# Altium footprint library LAY_90818_C172.PcbLib: 60 footprints (part 2 of 5)
Each footprint in its own frame and in the unit in brackets; x right, y up, seen from the top. Pads: shape width x height; smd on the part's side, far side on the other; paste and mask are expansions set on the pad; w line width, h text height; cw(c..) or ccw(c..) is an arc to the next point about the centre after c.
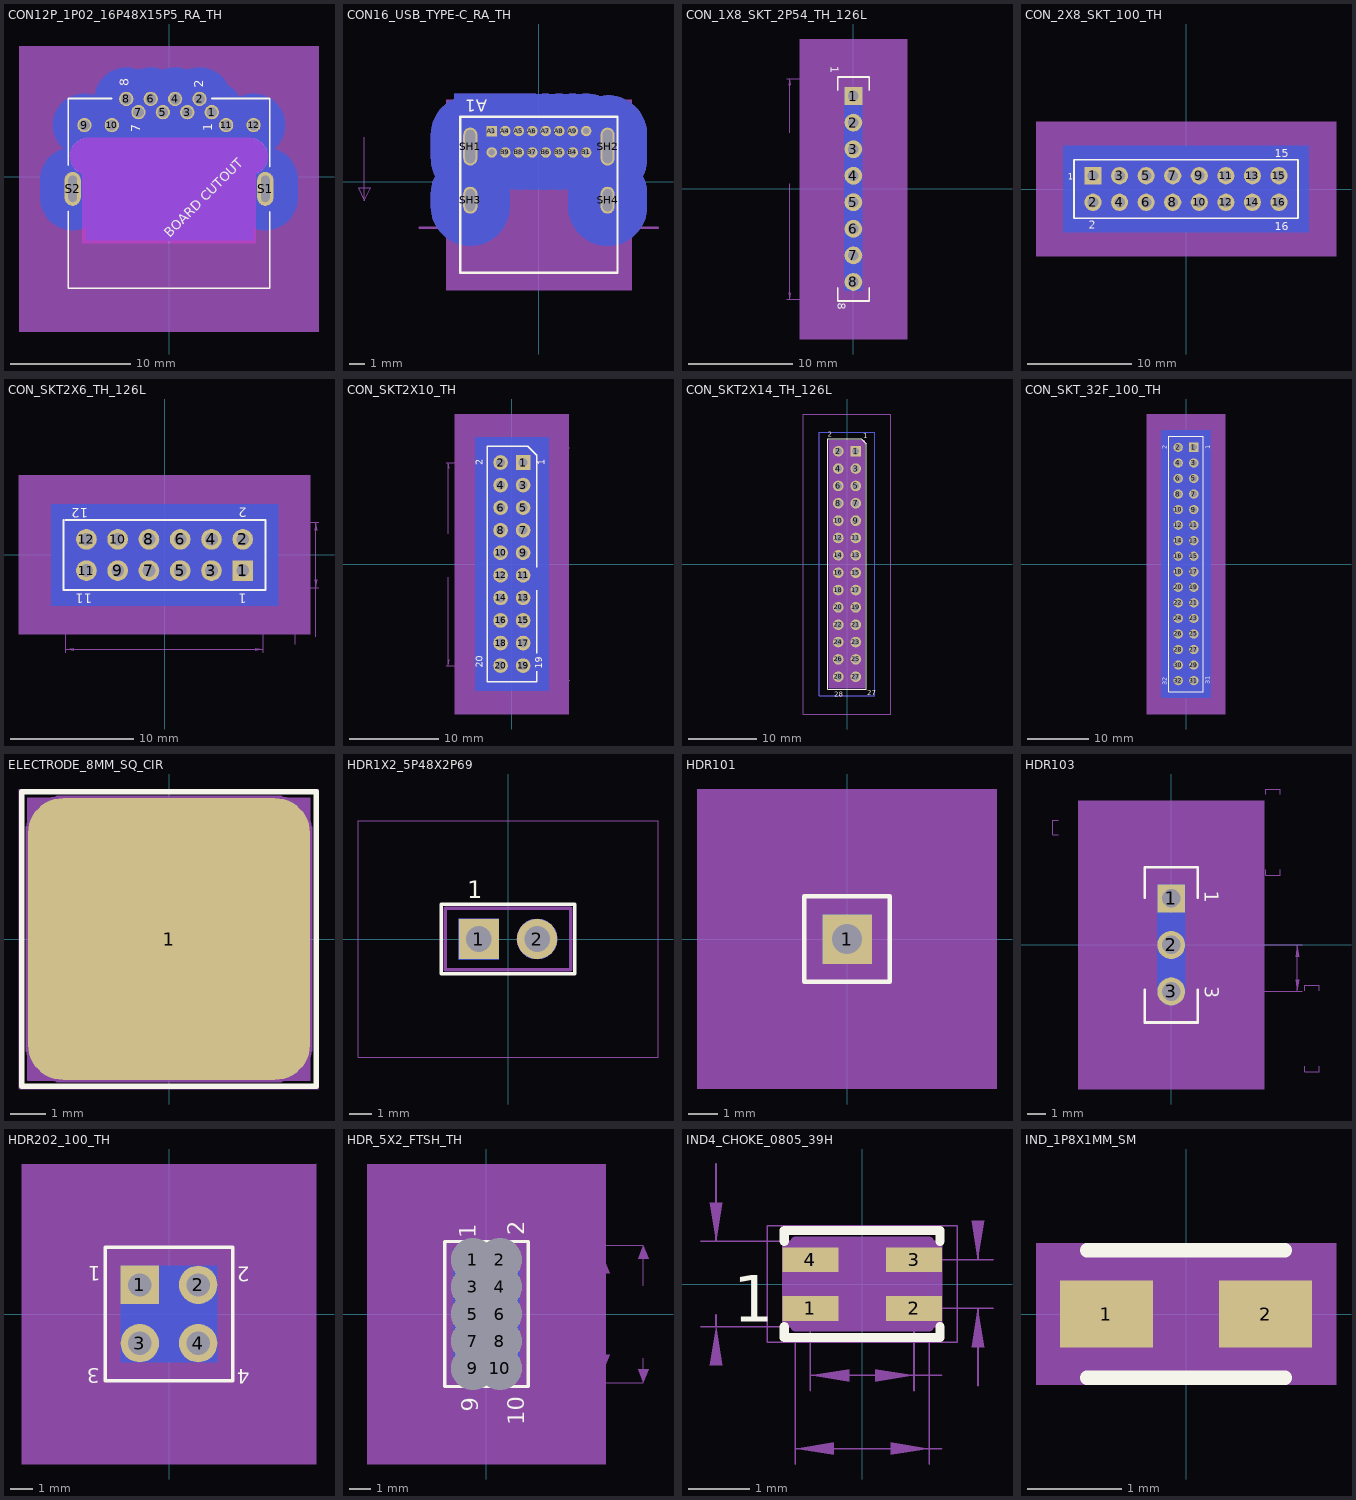
[diagram p1: the footprints below, top view; thin cyan lines are the x and y axes]

## CON12P_1P02_16P48X15P5_RA_TH [mil] "CON12P_1P02_16P48X15P5_RA_TH"
pads (14):
  round 47 hole 35: 1(140.55,212.62) 2(100.39,255.93) 3(60.24,212.62) 4(20.08,255.93) 5(-20.08,212.62) 6(-60.24,255.93) 7(-100.39,212.62) 8(-140.55,255.93) 9(-277.95,170.1) 10(-187.79,170.1) 11(187.79,170.1) 12(277.95,170.1)
  oval 53x112 hole 28 slot 87 at 90 deg: S1(316.54,-39.35) S2(-316.54,-39.35)
Bottom Layer:
  region: 368 vertices and 0 holes, not listed, extent -423.04,-175.35 423.04,359.43
  region: -272.39,-207.69 -272.39,17.45 -276.69,18.61 -280.88,20.14 -284.92,22.03 -288.77,24.27 -292.42,26.83 -295.83,29.7 -298.98,32.86 -301.84,36.28 -304.39,39.93 -306.61,43.8 -308.49,47.84 -310.01,52.03 -311.16,56.34 -311.92,60.73 -312.3,65.18 -312.3,69.64 -311.9,74.08 -311.12,78.47 -309.96,82.77 -308.43,86.96 -306.54,91 -304.3,94.85 -301.74,98.5 -298.87,101.91 -295.71,105.06 -292.29,107.92 -288.63,110.47 -284.77,112.69 -280.73,114.57 -276.53,116.09 -272.22,117.24 -267.83,118 -266.75,118.13 266.78,118.13 271.23,117.94 275.65,117.36 280,116.4 284.25,115.06 288.36,113.36 292.31,111.3 296.07,108.91 299.61,106.2 302.89,103.2 305.9,99.91 308.62,96.38 311.01,92.63 313.07,88.68 314.78,84.56 316.12,80.31 317.08,75.97 317.67,71.55 317.87,67.1 317.67,62.65 317.09,58.23 316.13,53.89 314.79,49.64 313.09,45.52 311.04,41.57 308.65,37.81 305.94,34.28 302.93,30.99 299.65,27.98 296.11,25.27 292.36,22.87 288.41,20.81 284.29,19.11 280.05,17.77 278.8,17.45 278.8,-207.69
Top Overlay:
  lines w6: -331.41,-113.89 -331.41,-366.43 331.41,-366.43 331.41,-115.33 ; -331.41,39.01 -331.41,257.81 -188.06,257.81 ; 140.81,257.81 331.41,257.81 331.41,32.88
  text ".Designator" at -347.75,-181.25 h30
  text "BOARD CUTOUT" at 1.89,-201.67 h31
  text "2" at 112.25,292.75 h30
  text "8" at -132.75,297.75 h30
  text "7" at -93.88,146.14 h30
  text "1" at 142.83,150.24 h30
Bottom Overlay:
  text ".Designator" at -37.75,263.75 h30
  text "2" at 100.77,283.27 h30
  text "8" at -138.67,283.95 h30
  text "7" at -103.88,130.46 h30
  text "1" at 131.47,134.56 h30
Top Courtyard:
  dashed: -343.04,279.41 -343.04,-359.43 343.04,-359.43 343.04,279.41
Bottom Courtyard:
  drawing of 2 lines, arcs and shapes, not listed
Top 3D Body:
  region: -343.04,-359.43 343.04,-359.43 343.04,279.41 -343.04,279.41
Top Component Center:
  lines w1: 130.53,212.62 150.53,212.62 ; 140.53,202.62 140.53,222.62
Multi-Layer keep-out:
  region: -270.47,128.13 263.63,128.13 268.95,127.9 274.23,127.2 279.43,126.04 284.51,124.44 289.43,122.4 294.15,119.94 298.65,117.08 302.87,113.83 306.8,110.23 310.39,106.3 313.63,102.07 316.49,97.58 318.95,92.86 320.99,87.93 322.59,82.85 323.74,77.65 324.43,72.37 324.66,67.05 324.43,61.73 323.73,56.45 322.57,51.25 320.97,46.17 318.93,41.25 316.47,36.52 313.6,32.03 310.36,27.81 306.76,23.88 302.83,20.29 298.6,17.05 294.11,14.19 289.38,11.73 285.59,10.12 285.59,-217.69 -285.59,-217.69 -285.59,9.99 -290.51,12.05 -295.23,14.53 -299.71,17.42 -303.93,20.68 -307.84,24.3 -311.43,28.24 -314.65,32.48 -317.5,36.99 -319.94,41.73 -321.96,46.66 -323.54,51.76 -324.67,56.97 -325.35,62.25 -325.56,67.58 -325.3,72.9 -324.58,78.19 -323.41,83.39 -321.78,88.46 -319.72,93.38 -317.24,98.1 -314.36,102.58 -311.09,106.8 -307.48,110.71 -303.53,114.3 -299.29,117.53 -294.78,120.37 -290.04,122.81 -285.11,124.83 -280.02,126.41 -274.81,127.55
Mechanical 31:
  dashed: -493.04,-509.43 493.04,-509.43 493.04,429.41 -493.04,429.41
Mechanical34:
  text "8" at -134.05,223.96 h25
  text "7" at -93.36,180.65 h25
  text "5" at -12,181.97 h25
  text "4" at 27.37,222 h25
  text "1" at 148.11,180 h25
  text "2" at 108.09,224.62 h25
  text "6" at -52.69,222.65 h25
  text "3" at 69.37,180 h25
  text "12" at 296.91,116.69 h25
  text "10" at -169.39,117.42 h25
  text "S1" at 333.49,-94.05 h25
  text "S2" at -299.58,-94.05 h25
  text "11" at 206.36,118 h25
  text "9" at -268.74,138.14 h25
Mechanical35:
  text "CON12P_1P02_16P48X15P5_RA_TH" at -0.74,20.36 h31
  text "PADS 1-12 C047-035T" at 25.51,-1077.97 h31
  text "PADS -S1,S2 O053X112-028X087T" at 38.1,-1257.64 h31
  text "ALL DIMS IN MM" at 25.51,-1127.16 h31
Top Assembly:
  lines w6: -433.07,-207.69 -275.59,-207.69 -275.59,17.45 cw(c-264.45,67.32) -269.96,118.13 263.58,118.13 cw(c263.6,67.08) 275.59,17.45 275.59,-207.69 433.07,-207.69 ; 373.09,-170.95 388.22,-192.59 ; 388.22,83.01 388.22,-192.59 ; 404.56,-171.11 388.22,-192.59 ; -324.41,-359.43 324.41,-359.43 324.41,250.81 -324.41,250.81 -324.41,-359.43
  text "BOARD CUTOUT" at -2.21,-199.81 h31
  text "2" at 100.77,285.54 h25
  text "8" at -140.03,288.27 h25
  text "7" at -103.89,136.36 h25
  text "1" at 132.14,140.24 h25
  text "PCB EDGE DIRECTION" at 487.11,-249.02 h31
  text "BOARD EDGE NOT DEFINED BY MANUFACTURER" at 551.28,-580.56 h31
3D body: height 150, standoff 0, extent -343.04,-359.43 343.04,279.41

## CON16_USB_TYPE-C_RA_TH [mil] "CON16_USB_TYPE-C_RA_TH"
pads (20):
  rect 26x26 hole 16: A1(-117.13,125.94)
  round 26 hole 16: A4(-83.66,125.94) A5(-50.2,125.94) A6(-16.73,125.94) A7(16.73,125.94) A8(50.2,125.94) A9(83.66,125.94) A12(117.13,125.94) B1(117.13,72.79) B4(83.66,72.79) B5(50.2,72.79) B6(16.73,72.79) B7(-16.73,72.79) B8(-50.2,72.79) B9(-83.66,72.79) B12(-117.13,72.79)
  oval 35x94 hole 24 slot 83 at 90 deg: SH1(-170.28,87.36) SH2(170.28,87.36)
  oval 35x67 hole 24 slot 55 at 90 deg: SH3(-170.28,-45.71) SH4(170.28,-45.71)
Bottom Layer:
  region: 219 vertices and 0 holes, not listed, extent -267.78,-159.21 267.78,218.94
Top Overlay:
  lines w6: -194.78,-225.94 -194.78,160.89 194.78,160.89 194.78,-225.94 -194.78,-225.94
  text ".Designator" at -218,-96.78 h30
  text "A1" at -128,203.22 h30
Bottom Overlay:
  text ".Designator" at 2,-32.78 h30
  text "B12" at -103,-27.78 h30
  text "B1" at 132,-5.78 h30
Top Courtyard:
  dashed: -180.12,-218.94 -180.12,-76.18 -181.34,-75.27 -182.48,-74.25 -183.53,-73.14 -184.47,-71.94 -185.31,-70.67 -186.03,-69.32 -186.64,-67.92 -187.12,-66.47 -187.47,-64.99 -187.69,-63.48 -187.77,-61.95 -187.78,-61.71 -187.78,-29.71 -187.71,-28.19 -187.51,-26.68 -187.18,-25.19 -186.72,-23.73 -186.14,-22.32 -185.43,-20.97 -184.61,-19.68 -183.68,-18.47 -182.65,-17.34 -181.53,-16.31 -180.31,-15.38 -180.12,-15.24 -180.12,43.39 -181.34,44.3 -182.48,45.32 -183.53,46.43 -184.47,47.63 -185.31,48.9 -186.03,50.25 -186.64,51.65 -187.12,53.1 -187.47,54.58 -187.69,56.09 -187.77,57.62 -187.78,57.86 -187.78,116.86 -187.71,118.38 -187.51,119.9 -187.18,121.39 -186.72,122.84 -186.14,124.25 -185.43,125.61 -184.61,126.89 -183.68,128.1 -182.65,129.23 -181.53,130.26 -180.31,131.19 -180.12,131.33 -180.12,153.89 180.12,153.89 180.12,131.33 181.34,130.41 182.48,129.4 183.53,128.29 184.47,127.09 185.31,125.81 186.03,124.47 186.64,123.07 187.12,121.62 187.47,120.13 187.69,118.62 187.77,117.1 187.78,116.86 187.78,57.86 187.71,56.33 187.51,54.82 187.18,53.33 186.72,51.87 186.14,50.46 185.43,49.11 184.61,47.82 183.68,46.61 182.65,45.48 181.53,44.45 180.31,43.52 180.12,43.39 180.12,-15.24 181.34,-16.16 182.48,-17.17 183.53,-18.28 184.47,-19.48 185.31,-20.76 186.03,-22.1 186.64,-23.51 187.12,-24.95 187.47,-26.44 187.69,-27.95 187.77,-29.48 187.78,-29.71 187.78,-61.71 187.71,-63.24 187.51,-64.75 187.18,-66.24 186.72,-67.7 186.14,-69.11 185.43,-70.46 184.61,-71.75 183.68,-72.96 182.65,-74.09 181.52,-75.12 180.31,-76.05 180.12,-76.18 180.12,-218.94
Bottom Courtyard:
  drawing of 7 lines, arcs and shapes, not listed
Top 3D Body:
  region: -180.12,-218.94 -180.12,-76.18 -181.34,-75.27 -182.48,-74.25 -183.53,-73.14 -184.47,-71.94 -185.31,-70.67 -186.03,-69.32 -186.64,-67.92 -187.12,-66.47 -187.47,-64.99 -187.69,-63.48 -187.77,-61.95 -187.78,-61.71 -187.78,-29.71 -187.71,-28.19 -187.51,-26.68 -187.18,-25.19 -186.72,-23.73 -186.14,-22.32 -185.43,-20.97 -184.61,-19.68 -183.68,-18.47 -182.65,-17.34 -181.53,-16.31 -180.31,-15.38 -180.12,-15.24 -180.12,43.39 -181.34,44.3 -182.48,45.32 -183.53,46.43 -184.47,47.63 -185.31,48.9 -186.03,50.25 -186.64,51.65 -187.12,53.1 -187.47,54.58 -187.69,56.09 -187.77,57.62 -187.78,57.86 -187.78,116.86 -187.71,118.38 -187.51,119.9 -187.18,121.39 -186.72,122.84 -186.14,124.25 -185.43,125.61 -184.61,126.89 -183.68,128.1 -182.65,129.23 -181.53,130.26 -180.31,131.19 -180.12,131.33 -180.12,153.89 180.12,153.89 180.12,131.33 181.34,130.41 182.48,129.4 183.53,128.29 184.47,127.09 185.31,125.81 186.03,124.47 186.64,123.07 187.12,121.62 187.47,120.13 187.69,118.62 187.77,117.1 187.78,116.86 187.78,57.86 187.71,56.33 187.51,54.82 187.18,53.33 186.72,51.87 186.14,50.46 185.43,49.11 184.61,47.82 183.68,46.61 182.65,45.48 181.53,44.45 180.31,43.52 180.12,43.39 180.12,-15.24 181.34,-16.16 182.48,-17.17 183.53,-18.28 184.47,-19.48 185.31,-20.76 186.03,-22.1 186.64,-23.51 187.12,-24.95 187.47,-26.44 187.69,-27.95 187.77,-29.48 187.78,-29.71 187.78,-61.71 187.71,-63.24 187.51,-64.75 187.18,-66.24 186.72,-67.7 186.14,-69.11 185.43,-70.46 184.61,-71.75 183.68,-72.96 182.65,-74.09 181.52,-75.12 180.31,-76.05 180.12,-76.18 180.12,-218.94
Top Component Center:
  lines w1: -127.13,125.94 -107.13,125.94 ; -117.13,115.94 -117.13,135.94
Mechanical 31:
  dashed: -237.78,-29.71 -237.52,-23.83 -236.75,-17.99 -235.48,-12.24 -233.7,-6.63 -231.45,-1.19 -230.12,1.51 -230.12,26.63 -232.61,31.97 -234.63,37.5 -236.16,43.18 -237.19,48.98 -237.71,54.85 -237.78,57.86 -237.78,116.86 -237.52,122.74 -236.75,128.58 -235.48,134.33 -233.7,139.94 -231.45,145.38 -230.12,148.08 -230.12,203.89 230.12,203.89 230.12,148.08 232.61,142.75 234.63,137.22 236.16,131.53 237.19,125.73 237.71,119.87 237.78,116.86 237.78,57.86 237.52,51.97 236.75,46.14 235.48,40.39 233.7,34.77 231.45,29.33 230.12,26.63 230.12,1.51 232.61,-3.82 234.63,-9.35 236.16,-15.04 237.19,-20.84 237.71,-26.7 237.78,-29.71 237.78,-61.71 237.52,-67.6 236.75,-73.43 235.48,-79.18 233.7,-84.8 231.45,-90.24 230.12,-92.94 230.12,-268.94 -230.12,-268.94 -230.12,-92.94 -232.61,-87.6 -234.63,-82.07 -236.16,-76.39 -237.19,-70.59 -237.71,-64.72 -237.78,-61.71
Mechanical34:
  text "SH3" at -170.28,-57.71 h10
  text "SH1" at -170.28,75.36 h10
  text "SH4" at 170.28,-57.71 h10
  text "SH2" at 170.28,75.36 h10
  text "A8" at 50.2,117.94 h10
  text "B8" at -50.2,64.79 h10
  text "B9" at -83.66,64.79 h10
  text "A4" at -83.66,117.94 h10
  text "B4" at 83.66,64.79 h10
  text "A9" at 83.66,117.94 h10
  text "B6" at 16.73,64.79 h10
  text "A6" at -16.73,117.94 h10
  text "A5" at -50.2,117.94 h10
  text "B5" at 50.2,64.79 h10
  text "B7" at -16.73,64.79 h10
  text "A7" at 16.73,117.94 h10
  text "A1" at -117.13,117.94 h10
  text "B12" at -117.13,60.79 h10
  text "A12" at 117.13,113.94 h10
  text "B1" at 117.13,64.79 h10
Mechanical35:
  text "CON16_USB_TYPEC_RA_TH" at -278.86,388.05 h31
  text "PADS A4-A12 TO  B1-B12  - C026-016T" at -446.04,-447.83 h31
  text "PADS SH1,SH2  O035X094-024X083T" at -403,-506.05 h31
  text "PADS SH3,SH4  O035X067-024X055T" at -406.54,-567.86 h31
  text "ALL DIMS IN MM" at -180.51,-629.32 h31
  text "PADS A1  - S026-016T" at -295.46,-397.04 h31
Top Assembly:
  lines w1: -433.07,110.98 -433.07,-46.5 ; -433.07,-46.5 -417.32,-15.01 -448.82,-15.01 -433.07,-46.5
  lines w6: -295.28,-114.22 295.28,-114.22 ; -180.12,-218.94 180.12,-218.94 180.12,153.89 -180.12,153.89 -180.12,-218.94
  text "A12" at 115.16,152.73 h25
  text "A1" at -115.16,158.79 h25
  text "B1" at 230.71,34.22 h25
  text "B12" at -253.54,17.13 h25
  text "BOARD EDGE NOT DEFINED BY MANUFACTURER" at -504.42,-565.26 h31
  text "PCB EDGE" at -424.42,-303.26 h31
3D body: height 150, standoff 0, extent -187.78,-218.94 187.78,153.89

## CON_1X8_SKT_2P54_TH_126L [mil] "CON_1X8_SKT_2P54_TH_126L"
pads (8):
  rect 67x67 / inner round 67 / far side rect 67x67 hole 40: 1(0.05,349.98)
  round 67 hole 40: 2(0.05,249.98) 3(0.05,149.98) 4(0.05,49.98) 5(0.05,-50.02) 6(0.05,-150.02) 7(0.05,-250.02) 8(0.05,-350.02)
Bottom Layer:
  region: -33.47,-383.49 33.54,-383.49 33.54,383.59 -33.47,383.59
Top Overlay:
  lines w6: -59.11,-371.79 -59.11,-421.79 59.22,-421.79 59.22,-371.79 ; -59.11,371.74 -59.11,421.74 59.22,421.74 59.22,371.74
  text "1" at -85.05,462.02 h30
  text "8" at -59.05,-428.98 h30
Bottom Overlay:
  text "1" at -16.6,415.42 h30
  text "8" at -10.05,-429.98 h30
  text ".Designator" at -75.05,65.02 h30
Top Courtyard:
  dashed: -52.11,414.83 -52.11,-414.83 52.11,-414.83 52.11,414.83
Bottom Courtyard:
  dashed: -33.47,383.59 -33.47,-383.49 33.54,-383.49 33.54,383.59
Top 3D Body:
  region: -52.11,-414.83 52.11,-414.83 52.11,414.83 -52.11,414.83
Top Component Center:
  lines w1: -9.95,349.98 10.05,349.98 ; 0.05,339.98 0.05,359.98
Mechanical 31:
  dashed: -202.11,-564.83 202.11,-564.83 202.11,564.83 -202.11,564.83
Mechanical34:
  text "2" at 0.05,253.98 h10
  text "1" at 0.05,353.98 h10
  text "6" at 0.05,-146.02 h10
  text "5" at 0.05,-46.02 h10
  text "4" at 0.05,53.98 h10
  text "3" at 0.05,153.98 h10
  text "7" at 0.05,-246.02 h10
  text "8" at 0.05,-346.02 h10
Mechanical35:
  dashed: -119.95,324.98 -123.95,349.98 -127.94,324.98 -123.95,329.98
  dashed: -127.94,274.98 -123.95,249.98 -119.95,274.98 -123.95,269.98
  dashed: -178.95,324.98 -182.95,349.98 -186.94,324.98 -182.95,329.98
  dashed: -186.94,-325.02 -182.95,-350.02 -178.95,-325.02 -182.95,-330.02
  dashed: -235.95,389.74 -239.95,414.74 -243.94,389.74 -239.95,394.74
  dashed: -243.94,-389.79 -239.95,-414.79 -235.95,-389.79 -239.95,-394.79
  dashed: 27.22,-499.52 52.22,-495.52 27.22,-491.53 32.22,-495.52
  dashed: -27.11,-491.53 -52.11,-495.52 -27.11,-499.52 -32.11,-495.52
  lines w1: -249.95,-414.79 -62.11,-414.79 ; -249.95,414.74 -62.11,414.74 ; -239.95,-414.79 -239.95,19.73 ; -239.95,211.23 -239.95,414.74 ; -192.95,-350.02 -9.95,-350.02 ; -192.95,349.98 -9.95,349.98 -133.95,349.98 ; -182.95,-350.02 -182.95,19.73 ; -182.95,211.23 -182.95,349.98 ; -133.95,249.98 -9.95,249.98 ; -123.95,211.23 -123.95,249.98 -123.95,349.98 ; -97.7,-495.52 -52.11,-495.52 52.22,-495.52 ; -52.11,-505.52 -52.11,-424.79 ; 52.22,-505.52 52.22,-424.79
  text "CON_1X8_SKT_2P54_TH_126L" at -292.45,607.48 h31
  text "PADS 2-8 CO67-040T" at -319.95,-733.02 h31
  text "PAD    1 S067-040T" at -319.45,-682.92 h31
  text "ALL DIMS IN MM" at -258.45,-614.02 h31
  text "2.54" at -108.45,74.98 h31
  text "17.78" at -167.45,45.98 h31
  text "21.07" at -224.45,45.98 h31
  text "2.65" at -233.95,-511.02 h31
Top Assembly:
  lines w6: -52.11,-414.79 52.22,-414.79 52.22,414.74 -52.11,414.74 -52.11,-414.79
  text "1" at -9.45,440.68 h25
  text ".Designator" at -17.95,359.98 h25
  text "8" at -6.95,-463.52 h25
3D body: height 150, standoff 0, extent -52.11,-414.83 52.11,414.83

## CON_2X8_SKT_100_TH [mil] "CON_2X8_SKT_100_TH"
pads (16):
  rect 65x65 / inner round 65 / far side rect 65x65 hole 40: 1(-350,50)
  round 65 hole 40: 2(-350,-50) 3(-250,50) 4(-250,-50) 5(-150,50) 6(-150,-50) 7(-50,50) 8(-50,-50) 9(50,50) 10(50,-50) 11(150,50) 12(150,-50) 13(250,50) 14(250,-50) 15(350,50) 16(350,-50)
Bottom Layer:
  region: -462.5,-162.5 462.5,-162.5 462.5,162.5 -462.5,162.5
Top Overlay:
  lines w6: -421.76,-109.95 421.76,-109.95 421.76,109.95 -421.76,109.95 -421.76,-109.95
  text ".Designator" at -15.5,-155.5 h30
  text "16" at 335.04,-154.72 h30
  text "15" at 334.5,119.5 h30
  text "2" at -365.5,-150.5 h30
  text "1" at -445.5,34.5 h25
Bottom Overlay:
  text "15" at 445,35 h25
  text "16" at 445,-65 h25
  text "2" at -410.5,-45.5 h30
  text "1" at -410.5,44.5 h30
Top Courtyard:
  dashed: -414.76,-102.95 414.76,-102.95 414.76,102.95 -414.76,102.95
Bottom Courtyard:
  dashed: -462.5,-162.5 462.5,-162.5 462.5,162.5 -462.5,162.5
Top 3D Body:
  region: -414.76,-102.95 414.76,-102.95 414.57,105.12 -414.76,102.95
Top Component Center:
  lines w1: -360,50 -340,50 ; -350,40 -350,60
Mechanical 31:
  dashed: -564.76,-252.95 564.76,-252.95 564.76,252.95 -564.76,252.95
Mechanical34:
  text "3" at -254,50 h10
  text "6" at -154,-50 h10
  text "8" at -54,-50 h10
  text "4" at -254,-50 h10
  text "7" at -54,50 h10
  text "1" at -354,50 h10
  text "9" at 46,50 h10
  text "5" at -154,50 h10
  text "11" at 142,50 h10
  text "15" at 342,50 h10
  text "2" at -354,-50 h10
  text "13" at 242,50 h10
  text "10" at 42,-50 h10
  text "16" at 342,-50 h10
  text "12" at 142,-50 h10
  text "14" at 242,-50 h10
Mechanical35:
  text "ALL DIMS ARE IN MM" at -247.64,-414.57 h31
  text "PADS  C065-040T" at -200.39,-359.45 h31
  text "PAD 1 S065-040T" at -200.39,-312.2 h31
  text "CON_2X8_SKT_100_TH" at -239.76,175.98 h31
Top Assembly:
  lines w6: -414.76,-102.95 414.76,-102.95 414.76,102.95 -414.76,102.95 -414.76,-102.95
  text ".Designator" at -11.42,-5.12 h25
  text "16" at 335.04,-146.85 h25
  text "15" at 327.17,128.74 h25
  text "2" at -356.43,-150.71 h25
  text "1" at -356.43,123.28 h25
3D body: height 150, standoff 0, extent -414.76,-102.95 414.76,105.12

## CON_SKT2X6_TH_126L [mil] "CON_SKT2X6_TH_126L"
pads (12):
  rect 66x66 / inner round 66 / far side rect 66x66 hole 41: 1(250,-50)
  round 66 hole 41: 2(250,50) 3(150,-50) 4(150,50) 5(50,-50) 6(50,50) 7(-50,-50) 8(-50,50) 9(-150,-50) 10(-150,50) 11(-250,-50) 12(-250,50)
Bottom Layer:
  region: -363,-163 363,-163 363,163 -363,163
Top Overlay:
  lines w6: -323.2,111.78 -323.2,-111.76 323.22,-111.76 323.22,111.78 -317.65,111.78
  text ".Designator" at 23.5,150.5 h30
  text "1" at 263.5,-124.5 h30
  text "2" at 263.5,150.5 h30
  text "11" at -231.5,-124.5 h30
  text "12" at -245,150 h30
Bottom Overlay:
  text ".Designator" at -36.5,10.5 h30
  text "1" at 300,-35 h25
  text "2" at 295,50 h25
  text "11" at -341.5,-39.5 h25
  text "12" at -341.5,60.5 h25
Top Courtyard:
  dashed: -315.75,-104.33 315.75,-104.33 315.75,104.33 -315.75,104.33
Bottom Courtyard:
  dashed: -363,-163 363,-163 363,163 -363,163
Top 3D Body:
  region: -315.75,-104.33 315.75,-104.33 315.75,104.33 -315.75,104.33
Top Component Center:
  lines w1: 240,-50 260,-50 ; 250,-60 250,-40
Mechanical 31:
  dashed: -465.75,-254.33 465.75,-254.33 465.75,254.33 -465.75,254.33
Mechanical34:
  text "12" at -242,50 h10
  text "10" at -142,50 h10
  text "8" at -46,50 h10
  text "6" at 54,50 h10
  text "2" at 254,50 h10
  text "4" at 154,50 h10
  text "3" at 154,-50 h10
  text "1" at 254,-50 h10
  text "5" at 54,-50 h10
  text "7" at -46,-50 h10
  text "9" at -146,-50 h10
  text "11" at -242,-50 h10
Mechanical35:
  dashed: 225,-172.3 250,-168.3 225,-164.31
  dashed: 175,-164.31 150,-168.3 175,-172.3
  dashed: 225,-240.6 250,-236.61 225,-232.61
  dashed: -225,-232.61 -250,-236.61 -225,-240.6
  dashed: 290.75,-306.09 315.75,-302.1 290.75,-298.1
  dashed: -290.75,-298.1 -315.75,-302.1 -290.75,-306.09
  dashed: 421.51,25 417.51,50 413.52,25
  dashed: 413.52,-25 417.51,-50 421.51,-25
  dashed: 487.94,79.33 483.94,104.33 479.95,79.33
  dashed: 479.95,-79.33 483.94,-104.33 487.94,-79.33
  lines w1: -315.75,-312.1 -315.75,-108.42 ; -315.75,-302.1 -18.49,-302.1 315.75,-302.1 ; -250,-246.61 -250,-60 ; -250,-236.61 -16.62,-236.61 250,-236.61 ; -29.57,-168.3 150,-168.3 ; 150,-178.3 150,-60 ; 250,-246.61 250,-60 250,-178.3 ; 260,-50 427.51,-50 ; 260,50 427.51,50 ; 315.75,-312.1 315.75,-108.42 ; 325.75,-104.33 493.94,-104.33 ; 325.75,104.33 493.94,104.33 ; 417.51,-286.04 417.51,-50 ; 483.94,-261.24 483.94,-104.33 ; 150,-168.3 250,-168.3 150,-168.3 ; 417.51,-50 417.51,50 417.51,-50 ; 483.94,-104.33 483.94,104.33 483.94,-104.33
  text "CON_SKT2X6_TH_126L" at -185.03,209.69 h31
  text "ALL DIMS ARE IN MM." at -237.43,-505.13 h31
  text "PAD 1 S066-041T" at -212.62,-384.13 h31
  text "PADS 2-12 C066-041T" at -329.85,-444.81 h31
  text "2.54" at -3.32,-149.8 h31
  text "12.7" at -71.62,-218.11 h31
  text "16.04" at -87.99,-283.6 h31
  text "2.54" at 399.01,-259.8 h31
  text "5.3" at 465.44,-235 h31
Top Assembly:
  lines w6: -315.75,-104.33 315.75,-104.33 315.75,104.33 -315.75,104.33 -315.75,-104.33
  text "1" at 329.6,-139.17 h25
  text "2" at 335.19,122.44 h25
  text "11" at -373.39,-141.92 h25
  text "12" at -367.1,120.42 h25
3D body: height 150, standoff 0, extent -315.75,-104.33 315.75,104.33

## CON_SKT2X10_TH [mil] "CON_SKT2X10_TH"
pads (20):
  rect 65x65 / inner round 65 / far side rect 65x65 hole 40: 1(50,450)
  round 65 hole 40: 2(-50,450) 3(50,350) 4(-50,350) 5(50,250) 6(-50,250) 7(50,150) 8(-50,150) 9(50,50) 10(-50,50) 11(50,-50) 12(-50,-50) 13(50,-150) 14(-50,-150) 15(50,-250) 16(-50,-250) 17(50,-350) 18(-50,-350) 19(50,-450) 20(-50,-450)
Bottom Layer:
  region: -162.5,-562.5 162.5,-562.5 162.5,562.5 -162.5,562.5
Top Overlay:
  lines w6: 109.95,-475 109.95,-521.96 -109.95,-521.96 -109.95,454 -109.95,521.96 70.58,521.96 109.95,482.59 109.95,460 109.95,-15 ; 109.95,-395 109.95,-115
  text ".Designator" at -130,21 h30
  text "1" at 145,438 h30
  text "2" at -130,438 h30
  text "19" at 135,-464 h30
  text "20" at -130,-459 h30
Bottom Overlay:
  text ".Designator" at 10,-19 h30
  text "20" at -130,-544 h30
  text "19" at 155,-544 h30
  text "2" at 5,490 h25
  text "1" at 85,490 h25
Top Courtyard:
  dashed: -102.95,-514.96 102.95,-514.96 102.95,514.96 -102.95,514.96
Bottom Courtyard:
  dashed: -162.5,-562.5 162.5,-562.5 162.5,562.5 -162.5,562.5
Top 3D Body:
  region: -103,-514.5 103,-514.5 103,515 -103,515
Top Component Center:
  lines w1: 40,450 60,450 ; 50,440 50,460
Mechanical 31:
  dashed: -253,-664.5 253,-664.5 253,665 -253,665
Mechanical34:
  text "17" at 50,-373 h10
  text "20" at -50,-473 h10
  text "18" at -50,-373 h10
  text "4" at -50,331 h10
  text "6" at -50,231 h10
  text "8" at -50,131 h10
  text "9" at 50,31 h10
  text "3" at 50,331 h10
  text "5" at 50,231 h10
  text "19" at 50,-473 h10
  text "13" at 50,-173 h10
  text "15" at 50,-273 h10
  text "10" at -50,27 h10
  text "12" at -50,-73 h10
  text "2" at -50,431 h10
  text "11" at 50,-73 h10
  text "1" at 50,431 h10
  text "7" at 50,131 h10
  text "16" at -50,-273 h10
  text "14" at -50,-173 h10
Mechanical35:
  dashed: 251,489.96 247,514.96 243,489.96
  dashed: 243,-489.96 247,-514.96 251,-489.96
  dashed: 25,611 50,615 25,619
  dashed: -25,619 -50,615 -25,611
  dashed: -179.5,325 -183.5,350 -187.5,325
  dashed: -187.5,275 -183.5,250 -179.5,275
  dashed: -277,425 -281,450 -285,425
  dashed: -285,-425 -281,-450 -277,-425
  dashed: 77.95,-573.05 102.95,-569.05 77.95,-565.06
  dashed: -77.95,-565.06 -102.95,-569.05 -77.95,-573.05
  lines w1: -291,-450 -60,-450 ; -291,450 -60,450 ; -281,-450 -281,-57.75 ; -281,133.75 -281,450 ; -193.5,250 -60,250 ; -193.5,350 -60,350 ; -183.5,160.25 -183.5,250 -183.5,350 ; -102.95,-579.05 -102.95,-524.96 ; -102.95,-569.05 -85.58,-569.05 ; -50,460 -50,625 ; -50,615 50,615 187.25,615 ; 50,460 50,625 ; 76.92,-569.05 102.95,-569.05 ; 102.95,-579.05 102.95,-524.96 ; 112.36,-514.96 257,-514.96 ; 112.36,514.96 257,514.96 ; 247,-514.96 247,-69.25 ; 247,122.25 247,514.96
  text "CON_SKT2X10_TH" at -193.43,685.32 h31
  text "PAD1    S065-040T" at -218.34,-702.33 h31
  text "PAD2-20 C065-040T" at -218.34,-747.33 h31
  text "ALL DIMS IN MM" at -138.86,-801.06 h31
  text "26.16" at 262.5,-43 h31
  text "2.54" at -168,24 h31
  text "2.54" at 213.5,599.5 h31
  text "22.86" at -265.5,-31.5 h31
  text "5.23" at -59.33,-584.55 h31
Top Assembly:
  lines w6: -102.95,-514.96 -102.95,514.96 63.58,514.96 102.95,475.59 102.95,-514.96 -102.95,-514.96
  text "1" at 140.82,442.84 h25
  text "2" at -160.47,434.77 h25
  text "19" at 119.96,-460.91 h25
  text "20" at -175.31,-465.87 h25
3D body: height 150, standoff 0, extent -103,-514.5 103,515

## CON_SKT2X14_TH_126L [mil] "CON_SKT2X14_TH_126L"
pads (28):
  rect 61x61 / inner round 61 / far side rect 61x61 hole 41: 1(50,650)
  round 61 hole 41: 2(-50,650) 3(50,550) 4(-50,550) 5(50,450) 6(-50,450) 7(50,350) 8(-50,350) 9(50,250) 10(-50,250) 11(50,150) 12(-50,150) 13(50,50) 14(-50,50) 15(50,-50) 16(-50,-50) 17(50,-150) 18(-50,-150) 19(50,-250) 20(-50,-250) 21(50,-350) 22(-50,-350) 23(50,-450) 24(-50,-450) 25(50,-550) 26(-50,-550) 27(50,-650) 28(-50,-650)
Bottom Layer:
  lines w1: -160.5,-760.5 160.5,-760.5 160.5,760.5 -160.5,760.5 -160.5,-760.5
Top Overlay:
  lines w6: -110.35,-721.76 -110.35,721.76 82.79,721.76 110.35,694.21 110.35,-721.76 -110.35,-721.76
  text ".Designator" at -64,734.76 h30
  text "1" at 93,724.76 h30
  text "2" at -112,734.76 h30
  text "27" at 116,-755.24 h30
  text "28" at -74,-765.24 h30
Bottom Overlay:
  text ".Designator" at -19,-15.24 h30
  text "28" at -65.34,-763.74 h30
  text "27" at 9.39,-763.39 h30
  text "2" at -120.43,678.9 h25
  text "1" at 109.8,677.4 h25
Top Courtyard:
  dashed: 103.35,-714.76 103.35,714.76 -103.35,714.76 -103.35,-714.76
Bottom Courtyard:
  lines w1: -160.5,-760.5 160.5,-760.5 160.5,760.5 -160.5,760.5 -160.5,-760.5
Top 3D Body:
  lines w1: -103.35,-714.76 103.35,-714.76 103.35,714.76 -103.35,714.76 -103.35,-714.76
Top Component Center:
  lines w1: 40,650 60,650 ; 50,640 50,660
Mechanical 31:
  lines w1: -253.35,-864.76 253.35,-864.76 253.35,864.76 -253.35,864.76 -253.35,-864.76
Mechanical34:
  text "17" at 42,-165 h10
  text "18" at -58,-165 h10
  text "19" at 42,-265 h10
  text "20" at -58,-265 h10
  text "22" at -58,-365 h10
  text "23" at 42,-465 h10
  text "24" at -58,-465 h10
  text "25" at 42,-565 h10
  text "26" at -58,-565 h10
  text "27" at 42,-665 h10
  text "28" at -58,-665 h10
  text "21" at 42,-365 h10
  text "1" at 46,635 h10
  text "15" at 42,-65 h10
  text "13" at 42,35 h10
  text "14" at -58,35 h10
  text "6" at -54,435 h10
  text "3" at 46,535 h10
  text "4" at -54,535 h10
  text "5" at 46,435 h10
  text "8" at -54,335 h10
  text "10" at -58,235 h10
  text "11" at 42,135 h10
  text "12" at -58,135 h10
  text "9" at 46,235 h10
  text "16" at -58,-65 h10
  text "7" at 46,335 h10
  text "2" at -54,635 h10
Mechanical35:
  text "CON_SKT2X14_TH_126L" at -263.15,800.12 h31
  text "PAD 2-28 C061-041T" at -234.41,-875.16 h31
  text "PAD 1    S061-041T" at -233.23,-831.38 h31
  text "ALL DIMS IN MM" at -196.38,-953.54 h31
Top Assembly:
  lines w6: -103.35,-714.76 -103.35,714.76 75.79,714.76 103.35,687.21 103.35,-714.76 -103.35,-714.76
  text "1" at 116.69,638.78 h25
  text "2" at -137.16,640.91 h25
  text "27" at 127.44,-660.67 h25
  text "28" at -161.38,-665.04 h25

## CON_SKT_32F_100_TH [mil] "CON_SKT_32F_100_TH"
pads (32):
  rect 60x60 / inner round 60 / far side rect 60x60 hole 41: 1(50,750)
  round 60 hole 41: 2(-50,750) 3(50,650) 4(-50,650) 5(50,550) 6(-50,550) 7(50,450) 8(-50,450) 9(50,350) 10(-50,350) 11(50,250) 12(-50,250) 13(50,150) 14(-50,150) 15(50,50) 16(-50,50) 17(50,-50) 18(-50,-50) 19(50,-150) 20(-50,-150) 21(50,-250) 22(-50,-250) 23(50,-350) 24(-50,-350) 25(50,-450) 26(-50,-450) 27(50,-550) 28(-50,-550) 29(50,-650) 30(-50,-650) 31(50,-750) 32(-50,-750)
Bottom Layer:
  region: -160,-860 160,-860 160,860 -160,860
Top Overlay:
  lines w6: -110.35,-821.72 ccw(c-110.35,-821.76) -110.31,-821.76 110.31,-821.76 cw(c110.35,-821.76) 110.35,-821.72 110.35,821.72 ccw(c110.35,821.76) 110.31,821.76 -110.31,821.76 ccw(c-110.35,821.76) -110.35,821.72 -110.35,-821.72
  text ".Designator" at -125,-584 h30
  text "1" at 155,738 h30
  text "2" at -125,738 h30
  text "31" at 154,-774 h30
  text "32" at -125,-779 h30
Bottom Overlay:
  text ".Designator" at 10,-19 h30
  text "32" at -40,-849 h30
  text "31" at 50,-849 h30
  text "2" at -23.9,814.57 h25
  text "1" at 67.6,814.8 h25
Top Courtyard:
  dashed: -103.31,814.76 -103.31,-814.72 103.35,-814.72 103.35,814.76
Bottom Courtyard:
  dashed: -160,860 160,860 160,-860 -160,-860
Top 3D Body:
  region: -103.31,814.76 -103.31,-814.76 103.31,-814.76 103.31,814.76
Top Component Center:
  lines w1: 40,750 60,750 ; 50,740 50,760
Mechanical 31:
  dashed: -253.31,-964.76 253.31,-964.76 253.31,964.76 -253.31,964.76
Mechanical34:
  text "32" at -50,-773 h10
  text "30" at -50,-673 h10
  text "26" at -50,-473 h10
  text "24" at -50,-373 h10
  text "15" at 50,27 h10
  text "18" at -50,-73 h10
  text "3" at 50,631 h10
  text "11" at 50,227 h10
  text "13" at 50,127 h10
  text "6" at -50,531 h10
  text "31" at 50,-773 h10
  text "4" at -50,631 h10
  text "8" at -50,431 h10
  text "12" at -50,227 h10
  text "16" at -50,27 h10
  text "21" at 50,-273 h10
  text "29" at 50,-673 h10
  text "23" at 50,-373 h10
  text "5" at 50,531 h10
  text "1" at 50,731 h10
  text "2" at -50,731 h10
  text "27" at 50,-573 h10
  text "28" at -50,-573 h10
  text "14" at -50,127 h10
  text "9" at 50,331 h10
  text "10" at -50,327 h10
  text "25" at 50,-473 h10
  text "7" at 50,431 h10
  text "19" at 50,-173 h10
  text "20" at -50,-173 h10
  text "17" at 50,-73 h10
  text "22" at -50,-273 h10
Mechanical35:
  dashed: -218.64,725 -222.64,750 -226.63,725
  dashed: -226.63,675 -222.64,650 -218.64,675
  dashed: 25,846.36 50,850.35 25,854.35
  dashed: -25,854.35 -50,850.35 -25,846.36
  lines w1: -232.64,650 -60,650 ; -232.64,750 -60,750 ; -222.64,629.04 -222.64,650 -222.64,750 ; -50,760 -50,860.35 ; -50,850.35 50,850.35 141.55,850.35 ; 50,760 50,860.35
  text "CON_SKT_32F_100_TH" at -174.61,991.38 h31
  text "PAD 2-32 C060-041T" at -258.98,-950 h31
  text "PAD 1    S060-041T" at -257.8,-906.22 h31
  text "ALL DIMS IN MM" at -220.94,-1028.39 h31
  text "2.54" at -207.14,492.8 h31
  text "2.54" at 167.79,834.85 h31
Top Assembly:
  lines w6: -103.35,-814.72 ccw(c-103.35,-814.76) -103.31,-814.76 103.31,-814.76 cw(c103.35,-814.76) 103.35,-814.72 103.35,814.72 ccw(c103.35,814.76) 103.31,814.76 -103.31,814.76 ccw(c-103.35,814.76) -103.35,814.72 -103.35,-814.72
  text "1" at 110.79,738.78 h25
  text "2" at -137.16,740.91 h25
  text "31" at 126.1,-760.08 h25
  text "32" at -157.76,-763.47 h25
3D body: height 150, standoff 0, extent -103.31,-814.76 103.31,814.76

## ELECTRODE_8MM_SQ_CIR [mil] "ELECTRODE_8MM_SQ_CIR"
pads (1):
  rrect25% 314.96x314.96 smd: 1(0,0)
Top Overlay:
  lines w6: -164.48,-164.48 164.48,-164.48 164.48,164.48 -164.48,164.48 -164.48,-164.48
Top Courtyard:
  lines w1: -157.48,-157.48 157.48,-157.48 157.48,157.48 -157.48,157.48 -157.48,-157.48
Top 3D Body:
  region: -157.48,-157.48 -157.48,157.48 157.48,157.48 157.48,-157.48
Top Component Center:
  lines w1: -10,0 10,0 ; 0,-10 0,10
Mechanical 31:
  lines w1: -167.48,-167.48 167.48,-167.48 167.48,167.48 -167.48,167.48 -167.48,-167.48
Mechanical34:
  text "1" at -4.06,3.94 h10
Mechanical35:
  text "PAD SH_8MM_SQ_CIR_TENTED" at -342.52,-263.78 h31
  text "ALL DIMS IN MM." at -224.41,-318.9 h31
Top Assembly:
  lines w6: -157.48,-118.11 ccw(c-118.11,-118.11) -118.11,-157.48 118.11,-157.48 ccw(c118.11,-118.11) 157.48,-118.11 157.48,118.11 ccw(c118.11,118.11) 118.11,157.48 -118.11,157.48 ccw(c-118.11,118.11) -157.48,118.11 -157.48,-118.11
  text ".Designator" at -19.68,11.81 h25
3D body: height 150, standoff 0, extent -157.48,-157.48 157.48,157.48

## HDR1X2_5P48X2P69 [mil] "HDR1X2_5P48X2P69"
pads (2):
  rect 69x69 / inner round 69 / far side rect 69x69 hole 44: 1(-50,0)
  round 69 hole 44: 2(50,0)
Bottom Layer:
  region: 84.8,0 83.61,9.01 80.14,17.4 74.61,24.61 67.4,30.14 59.01,33.61 50,34.8 40.99,33.61 32.6,30.14 25.39,24.61 19.86,17.4 16.39,9.01 15.2,0 16.39,-9.01 19.86,-17.4 25.39,-24.61 32.6,-30.14 40.99,-33.61 50,-34.8 59.01,-33.61 67.4,-30.14 74.61,-24.61 80.14,-17.4 83.61,-9.01
  lines w1: -84.5,-34.5 -15.5,-34.5 -15.5,34.5 -84.5,34.5 -84.5,-34.5
Top Overlay:
  lines w6: -114.87,-59.95 114.87,-59.95 114.87,59.95 -114.87,59.95 -114.87,-59.95
  text ".Designator" at 10,70 h30
  text "1" at -70,70 h30
Bottom Overlay:
  text ".Designator" at -92.99,-63 h30
  text "2" at 60,-85 h30
  text "1" at -40,-85 h30
Top Courtyard:
  lines w1: -107.87,-52.95 107.87,-52.95 107.87,52.95 -107.87,52.95 -107.87,-52.95
Bottom Courtyard:
  dashed: -84.5,34.5 -84.5,-34.5 -15.5,-34.5 -15.5,34.5
  dashed: 84.8,0 83.61,9.01 80.14,17.4 74.61,24.61 67.4,30.14 59.01,33.61 50,34.8 40.99,33.61 32.6,30.14 25.39,24.61 19.86,17.4 16.39,9.01 15.2,0 16.39,-9.01 19.86,-17.4 25.39,-24.61 32.6,-30.14 40.99,-33.61 50,-34.8 59.01,-33.61 67.4,-30.14 74.61,-24.61 80.14,-17.4 83.61,-9.01
Top 3D Body:
  lines w1: -107.87,-52.95 107.87,-52.95 107.87,52.95 -107.87,52.95 -107.87,-52.95
Top Component Center:
  lines w1: -60,0 -40,0 ; -50,-10 -50,10
Mechanical 31:
  lines w1: -257.87,-202.95 257.87,-202.95 257.87,202.95 -257.87,202.95 -257.87,-202.95
Mechanical34:
  text "2" at 46,0 h10
  text "1" at -54,0 h10
Mechanical35:
  text "PAD 1 S069-044T_TOL2_2" at -304.13,-226.49 h31
  text "PAD 2 C069-044T_TOL2_2" at -300.83,-286.49 h31
  text "ALL DIMS IN MM" at -297.96,-348 h31
  text "HDR1X2_5P48X2P69" at -202.91,148.21 h31
Top Assembly:
  lines w6: -107.87,-52.95 -107.87,52.95 107.87,52.95 107.87,-52.95 -107.87,-52.95
  text "1" at -66.97,-105.79 h25
  text "2" at 51.98,-106.64 h25

## HDR101 [mil] "HDR101"
pads (1):
  rect 66x66 / inner round 66 / far side rect 66x66 hole 40: 1(0,0)
Bottom Layer:
  region: -33,-33 33,-33 33,33 -33,33
Top Overlay:
  lines w6: -57,-57 -57,57 57,57 57,-57 -57,-57
  text ".Designator" at 0,106 h30
Bottom Overlay:
  text ".Designator" at -85,31 h30
Top Courtyard:
  dashed: -50,-50 50,-50 50,50 -50,50
Bottom Courtyard:
  dashed: -33,-33 33,-33 33,33 -33,33
Top 3D Body:
  region: -50,-50 50,-50 50,50 -50,50
Top Component Center:
  lines w1: -10,0 10,0 ; 0,-10 0,10
Mechanical 31:
  dashed: -200,-200 200,-200 200,200 -200,200
Mechanical34:
  text "1" at 0,-11 h10
Mechanical35:
  dashed: 25,131 50,135 25,139
  dashed: -25,139 -50,135 -25,131
  dashed: 118,25 114,50 110,25
  dashed: 110,-25 114,-50 118,-25
  lines w1: -110,135 -50,135 50,135 ; -50,60 -50,145 ; 50,60 50,145 ; 60,-50 124,-50 ; 60,50 124,50 ; 114,-50 114,50 114,83
  text "PAD S066-040T" at -215,-123 h25
  text "HDR101" at -87,223 h25
  text "ALL DIMS IN INCH" at -216,-186 h25
  text ".100" at -246,119 h25
  text ".100" at 130,109 h25
Top Assembly:
  lines w6: -50,-50 -50,50 50,50 50,-50 -50,-50
3D body: height 150, standoff 0, extent -50,-50 50,50

## HDR103 [mil] "HDR103"
pads (3):
  rect 60x60 / inner round 60 / far side rect 60x60 hole 40: 1(0,99.75)
  round 60 hole 40: 2(0,-0.25) 3(0,-100.25)
Bottom Layer:
  region: -30,129.75 -30,-100.25 -29.89,-102.86 -29.54,-105.46 -28.98,-108.01 -28.19,-110.51 -27.19,-112.93 -25.98,-115.25 -24.57,-117.46 -22.98,-119.53 -21.21,-121.46 -19.28,-123.23 -17.21,-124.82 -15,-126.23 -12.68,-127.44 -10.26,-128.44 -7.76,-129.23 -5.21,-129.79 -2.61,-130.14 0,-130.25 2.61,-130.14 5.21,-129.79 7.76,-129.23 10.26,-128.44 12.68,-127.44 15,-126.23 17.21,-124.82 19.28,-123.23 21.21,-121.46 22.98,-119.53 24.57,-117.46 25.98,-115.25 27.19,-112.93 28.19,-110.51 28.98,-108.01 29.54,-105.46 29.89,-102.86 30,-100.25 30,129.75
Top Overlay:
  lines w6: -57,-97.25 -57,-167.09 57,-167.09 57,-97.25 ; -57,101.75 -57,166.59 57,166.59 57,101.75
  text ".Designator" at 72.5,29.75 h30
  text "1" at 72.5,115.75 h30
  text "3" at 72.5,-89.25 h30
Bottom Overlay:
  text ".Designator" at -86.58,27.25 h30
  text "1" at 52.5,110.75 h30
  text "3" at 47.5,-99.25 h30
Top Courtyard:
  dashed: -50,-159.75 50,-159.75 50,159.75 -50,159.75
Bottom Courtyard:
  dashed: -30,129.75 -30,-100.25 -29.89,-102.86 -29.54,-105.46 -28.98,-108.01 -28.19,-110.51 -27.19,-112.93 -25.98,-115.25 -24.57,-117.46 -22.98,-119.53 -21.21,-121.46 -19.28,-123.23 -17.21,-124.82 -15,-126.23 -12.68,-127.44 -10.26,-128.44 -7.76,-129.23 -5.21,-129.79 -2.61,-130.14 0,-130.25 2.61,-130.14 5.21,-129.79 7.76,-129.23 10.26,-128.44 12.68,-127.44 15,-126.23 17.21,-124.82 19.28,-123.23 21.21,-121.46 22.98,-119.53 24.57,-117.46 25.98,-115.25 27.19,-112.93 28.19,-110.51 28.98,-108.01 29.54,-105.46 29.89,-102.86 30,-100.25 30,129.75
Top 3D Body:
  region: -50,-159.75 50,-159.75 50,159.75 -50,159.75
Top Component Center:
  lines w1: -10,99.75 10,99.75 ; 0,89.75 0,109.75
Mechanical 31:
  dashed: -200,-309.75 200,-309.75 200,309.75 -200,309.75
Mechanical34:
  text "3" at -0.5,-100.25 h10
  text "1" at 0.5,98.75 h10
  text "2" at 0,-0.75 h10
Mechanical35:
  dashed: 275,-25.25 271,-0.25 267,-25.25
  dashed: 267,-75.25 271,-100.25 275,-75.25
  dashed: 192,74.75 188,99.75 184,74.75
  dashed: 184,-75.25 188,-100.25 192,-75.25
  dashed: -180.5,134.59 -184.5,159.59 -188.5,134.59
  dashed: -188.5,-135.09 -184.5,-160.09 -180.5,-135.09
  dashed: 25,279.25 50,283.25 25,287.25
  dashed: -25,287.25 -50,283.25 -25,279.25
  lines w1: -242.5,236.75 -254,236.75 -254,267.75 -242.5,267.75 ; -194.5,-160.09 -60,-160.09 ; -194.5,159.59 -60,159.59 ; -184.5,-160.09 -184.5,-122.5 ; -184.5,109 -184.5,159.59 ; -169,-87.75 -169,-99.25 -138,-99.25 -138,-87.75 ; -169,74.25 -169,85.75 -138,85.75 -138,74.25 ; -80.5,236.75 -69,236.75 -69,267.75 -80.5,267.75 ; -50,169.59 -50,293.25 ; -45.75,283.25 -50,283.25 50,283.25 ; 10,-0.25 281,-0.25 ; 10,99.75 198,99.75 ; 50,169.59 50,293.25 ; 188,-100.25 188,99.75 188,126.5 ; 198,-100.25 10,-100.25 281,-100.25 ; 203.5,161.25 203.5,149.75 234.5,149.75 234.5,161.25 ; 203.5,323.25 203.5,334.75 234.5,334.75 234.5,323.25 ; 271,-64 271,-100.25 271,-0.25 ; 286.5,-260.75 286.5,-272.25 317.5,-272.25 317.5,-260.75 ; 286.5,-98.75 286.5,-87.25 317.5,-87.25 317.5,-98.75
  text "PAD 1   S060-040T" at -252.5,-350.25 h31
  text "PAD 2,3 C060-040T" at -251,-397.25 h31
  text "HDR103" at -83,436.75 h31
  text "ALL DIMS IN MM[MIL]" at -21,-65.65 h31
  text "2.54" at 255.5,-236.25 h31
  text "100.0" at 317.5,-249.25 h31
  text "5.08" at 172.5,185.75 h31
  text "200.0" at 234.5,172.75 h31
  text "8.12" at -200,-63.25 h31
  text "319.7" at -138,-76.25 h31
  text "2.54" at -218,298.75 h31
  text "100.0" at -231,236.75 h31
Top Assembly:
  lines w6: -50,-160.09 -50,159.59 50,159.59 50,-160.09 -50,-160.09
  text "1" at -100.5,86.25 h25
3D body: height 150, standoff 0, extent -50,-159.75 50,159.75

## HDR202_100_TH [mil] "HDR202_100_TH"
pads (4):
  rect 66x66 / inner round 66 / far side rect 66x66 hole 40: 1(-49.99,49.98)
  round 66 hole 40: 2(50.01,49.98) 3(-49.99,-50.02) 4(50.01,-50.02)
Bottom Layer:
  region: -83.03,-82.92 82.98,-82.92 82.98,83.11 -83.03,83.11
Top Overlay:
  lines w6: -109.5,-114.53 109.5,-114.53 109.5,114.47 -109.5,114.47 -109.5,-114.53
  text ".Designator" at 230,-78.03 h25
  text "1" at -117,81.97 h25
  text "2" at 139,80.97 h25
  text "3" at -119,-93.03 h25
  text "4" at 139,-95.03 h25
Bottom Overlay:
  text "1" at -98.5,134.47 h30
  text ".Designator" at -47.51,134.47 h30
  text "2" at 71.5,132.47 h30
  text "3" at -126.5,-45.52 h30
  text "4" at 89.5,-52.52 h30
Top Courtyard:
  dashed: -102.5,107.47 -102.5,-107.53 102.5,-107.53 102.5,107.53
Bottom Courtyard:
  dashed: -83.03,83.11 -83.03,-82.92 82.98,-82.92 82.98,83.11
Top 3D Body:
  region: -102.5,107.47 -102.5,-107.53 102.5,-107.53 102.5,107.53
Top Component Center:
  lines w1: -59.99,49.98 -39.99,49.98 ; -49.99,39.98 -49.99,59.98
Mechanical 31:
  dashed: -252.51,-257.52 -252.49,257.44 252.5,257.56 252.5,-257.52
Mechanical34:
  text "1" at -45.99,49.98 h10
  text "2" at 54.01,49.98 h10
  text "3" at -45.99,-50.02 h10
  text "4" at 54.01,-50.02 h10
Mechanical35:
  dashed: 25,155.57 50.01,159.57 25,163.57
  dashed: -25,163.57 -49.99,159.57 -25,155.57
  dashed: 163.71,24.98 159.71,49.98 155.71,24.98
  dashed: 155.71,-25.02 159.71,-50.02 163.71,-25.02
  dashed: 77.5,206.88 102.5,210.88 77.5,214.88
  dashed: -77.5,214.88 -102.5,210.88 -77.5,206.88
  dashed: 221.5,82.47 217.5,107.47 213.5,82.47
  dashed: 213.5,-82.53 217.5,-107.53 221.5,-82.53
  lines w1: -102.5,117.47 -102.5,220.88 ; -102.5,210.88 102.5,210.88 106.95,210.88 ; -49.99,59.98 -49.99,169.57 ; -49.99,159.57 50.01,159.57 106.95,159.57 ; 50.01,59.98 50.01,169.57 ; 60.01,-50.02 169.71,-50.02 ; 60.01,49.98 169.71,49.98 ; 102.5,117.47 102.5,220.88 ; 112.5,-107.53 227.5,-107.53 ; 112.5,107.47 227.5,107.47 ; 159.71,-100.38 159.71,-50.02 159.71,49.98 ; 217.5,-100.38 217.5,-107.53 217.5,107.47
  text "HDR202_100_TH" at -136.79,270.57 h31
  text "ALL DIMS IN INCH" at -170.79,-285.43 h31
  text "PAD  1   S066-040T" at -174.59,-335.62 h31
  text "PADS 2-4 C066-040T" at -173.69,-385.82 h31
  text ".100" at 133.21,144.07 h31
  text ".100" at 175.21,-236.62 h31
  text ".205" at 133.21,195.38 h31
  text ".215" at 233,-236.62 h31
Top Assembly:
  lines w6: -102.5,-107.53 102.5,-107.53 102.5,107.47 -102.5,107.47 -102.5,-107.53
  text "1" at -138.09,38.48 h25
  text "2" at 122.11,39.67 h25
  text "3" at -140.19,-63.42 h25
  text "4" at 123.5,-65.62 h25
3D body: height 150, standoff 0, extent -102.5,-107.53 102.5,107.53

## HDR_5X2_FTSH_TH [mil] "HDR_5X2_FTSH_TH"
pads (10):
  oval 56x40 hole 80: 1(-25,100) 2(25,100) 3(-25,50) 4(25,50) 5(-25,0) 6(25,0) 7(-25,-50) 8(25,-50) 9(-25,-100) 10(25,-100)
Bottom Layer:
  region: -61,-120 61,-120 61,120 -61,120
Top Overlay:
  lines w6: -77,-133.5 77,-133.5 77,133.5 -77,133.5 -77,-133.5
  text ".Designator" at 30,184 h30
  text "2" at 70,145 h30
  text "9" at -15,-180 h30
  text "10" at 70,-205 h30
  text "1" at -20,140 h30
Bottom Overlay:
  text ".Designator" at -85,-41 h30
  text "1" at -17,168 h30
  text "2" at 60,170 h30
  text "9" at -30,-140 h30
  text "10" at 50,-135 h30
Top Courtyard:
  dashed: -70,-126.5 70,-126.5 70,126.5 -70,126.5
Bottom Courtyard:
  dashed: -61,-120 61,-120 61,120 -61,120
Top 3D Body:
  region: -70,-126.5 70,-126.5 70,126.5 -70,126.5
Top Component Center:
  lines w1: -35,100 -25,100 ; -25,90 -25,100 ; -25,110 -25,100 ; -15,100 -25,100
Mechanical 31:
  dashed: -220,-276.5 220,-276.5 220,276.5 -220,276.5
Mechanical34:
  text "8" at 25,-57.33 h10
  text "9" at -27,-107.33 h10
  text "10" at 25,-111.33 h10
  text "7" at -27,-57.33 h10
  text "2" at 25,92.67 h10
  text "6" at 25,-7.33 h10
  text "4" at 25,42.67 h10
  text "1" at -27,92.67 h10
  text "3" at -27,42.67 h10
  text "5" at -27,-7.33 h10
Mechanical35:
  dashed: 149.5,75 159.5,50 169.5,75
  dashed: 169.5,-25 159.5,0 149.5,-25
  dashed: 227.5,75 217.5,100 207.5,75
  dashed: 207.5,-75 217.5,-100 227.5,-75
  dashed: 299.5,101.5 289.5,126.5 279.5,101.5
  dashed: 279.5,-101.5 289.5,-126.5 299.5,-101.5
  dashed: 50,-163 25,-173 50,-183
  dashed: -50,-183 -25,-173 -50,-163
  dashed: 45,-235.5 70,-225.5 45,-215.5
  dashed: -45,-215.5 -70,-225.5 -45,-235.5
  lines w1: -78,-173 -25,-173 -25,-100 ; -70,-126.5 -70,-225.5 70,-225.5 70,-126.5 289.5,-126.5 289.5,-81.25 ; 25,0 159.5,0 160,-45.5 ; 25,50 159.5,50 159.5,100 ; 25,100 217.5,100 217.5,-100 ; 70,126.5 289.5,126.5 289.5,52.25 ; 75,-173 25,-173 25,-100 217.5,-100 ; 217.5,-73.75 217.5,-100
  text "HDR_5X2_FTSH_TH" at -142.5,227.17 h31
  text "PADS 1-10 O040X056-028T" at -163.5,-319.33 h31
  text "ALL DIMS IN MILS" at -166,-368.83 h31
  text "50" at 200.33,-14 h31
  text "200" at 256.33,-41 h31
  text "253" at 303.33,-48.5 h31
  text "50" at -25,-217.33 h31
  text "140" at -47,-263.33 h31
Top Assembly:
  lines w6: -70,-126.5 70,-126.5 70,126.5 -70,126.5 -70,-126.5
  text "1" at -96.5,93.17 h25
  text "2" at 88.5,85.67 h25
  text "9" at -103.5,-119.33 h25
  text "10" at 83.5,-116.33 h25
3D body: height 150, standoff 0, extent -70,-126.5 70,126.5

## IND4_CHOKE_0805_39H [mil] "IND4_CHOKE_0805_39H"
pads (4):
  rect 36x16 smd: 1(-33.47,-15.75) 2(33.47,-15.75) 3(33.47,15.75) 4(-33.47,15.75)
Top Overlay:
  lines w6: -50.31,-27.56 -50.31,-34.56 50.31,-34.56 50.31,-27.56 ; -50.31,27.56 -50.31,34.56 50.31,34.56 50.31,27.56
  text ".Designator" at 66.53,5.75 h30
  text "1" at -83.47,-24.25 h30
Top Courtyard:
  lines w1: -51.47,-27.56 51.47,-27.56 51.47,27.56 -51.47,27.56 -51.47,-27.56
Top 3D Body:
  region: 51.47,27.56 51.47,-27.56 -51.47,-27.56 -51.47,27.56
Top Component Center:
  lines w1: -10,0 10,0 ; 0,-10 0,10
Mechanical 31:
  lines w1: -61.47,-37.56 61.47,-37.56 61.47,37.56 -61.47,37.56 -61.47,-37.56
Mechanical34:
  text "1" at -37.47,-15.75 h10
  text "4" at -37.47,15.75 h10
  text "3" at 29.46,15.75 h10
  text "2" at 29.46,-15.75 h10
Mechanical35:
  dashed: 8.46,-63.05 33.47,-59.05 8.46,-55.06
  dashed: -8.46,-55.06 -33.47,-59.05 -8.46,-63.05
  dashed: 18.31,-110.3 43.31,-106.3 18.31,-102.3
  dashed: -18.31,-102.3 -43.31,-106.3 -18.31,-110.3
  dashed: 70.81,40.75 74.8,15.75 78.8,40.75
  dashed: 78.8,-40.75 74.8,-15.75 70.81,-40.75
  dashed: -98.48,52.56 -94.49,27.56 -90.49,52.56
  dashed: -90.49,-52.56 -94.49,-27.56 -98.48,-52.56
  lines w1: -104.49,-27.56 -53.31,-27.56 ; -104.49,27.56 -53.31,27.56 ; -94.49,-27.56 -94.49,-19.87 ; -94.49,27.56 -94.49,77.56 ; -43.31,-116.3 -43.31,-37.56 ; -43.31,-106.3 43.31,-106.3 51.36,-106.3 ; -33.47,-69.06 -33.47,-25.75 ; -33.47,-59.05 33.47,-59.05 51.36,-59.05 ; 33.47,-69.06 33.47,-25.75 ; 43.31,-116.3 43.31,-37.56 ; 43.47,-15.75 84.8,-15.75 ; 43.47,15.75 84.8,15.75 ; 74.8,-65.75 74.8,-15.75 ; 74.8,15.75 74.8,19.87
  text "PADS R036X016S" at -169.29,-196.85 h31
  text "ALL DIMS IN MM" at -169.29,-244.09 h31
  text "IND4_CHOKE_0805_39H" at -169.29,157.48 h31
  text "1.7" at 77.61,-74.56 h31
  text "2.2" at 77.61,-121.8 h31
  text "0.8" at 90.3,46.11 h31
  text "1.4" at -78.99,-127.11 h31
Top Assembly:
  lines w6: -43.31,-27.56 43.31,-27.56 43.31,27.56 -43.31,27.56 -43.31,-27.56
  text "1" at -70.87,-23.62 h25
3D body: height 150, standoff 0, extent -51.47,-27.56 51.47,27.56

## IND_1P8X1MM_SM [mil] "IND_1P8X1MM_SM"
pads (2):
  rect 39x28 smd: 1(-33.28,0) 2(33.28,0)
Top Overlay:
  lines w6: -41.46,-26.69 41.46,-26.69 ; -41.46,26.69 41.46,26.69
Top Courtyard:
  dashed: 52.78,19.69 52.78,-19.69 -52.78,-19.69 -52.78,19.69
Top 3D Body:
  region: -52.78,-19.69 52.78,-19.69 52.78,19.69 -52.78,19.69
Top Component Center:
  lines w1: -10,0 10,0 ; 0,-10 0,10
Mechanical34:
  text "1" at -38.61,-3.12 h10
  text "2" at 30.46,-3.06 h10
Mechanical38:
  text "PAD 1,2 R028X039S" at -222.65,-149.19 h25
  text "ALL DIMS IN MM" at -175.76,-213.32 h25
  text "IND_1P8X1MM_SM" at -177.37,160.93 h25
Top Assembly:
  lines w6: -35.43,-19.69 35.43,-19.69 35.43,19.69 -35.43,19.69 -35.43,-19.69
  text ".Designator" at -16,-11.5 h25
Mechanical40:
  dashed: -62.78,-29.69 -62.78,29.69 62.78,29.69 62.78,-29.69
3D body: height 150, standoff 0, extent -52.78,-19.69 52.78,19.69